# Altium schematic symbol library PCB_Project.SCHLIB: 19 symbols
Pins are listed as number, name and electrical type; pins without a type are passive.

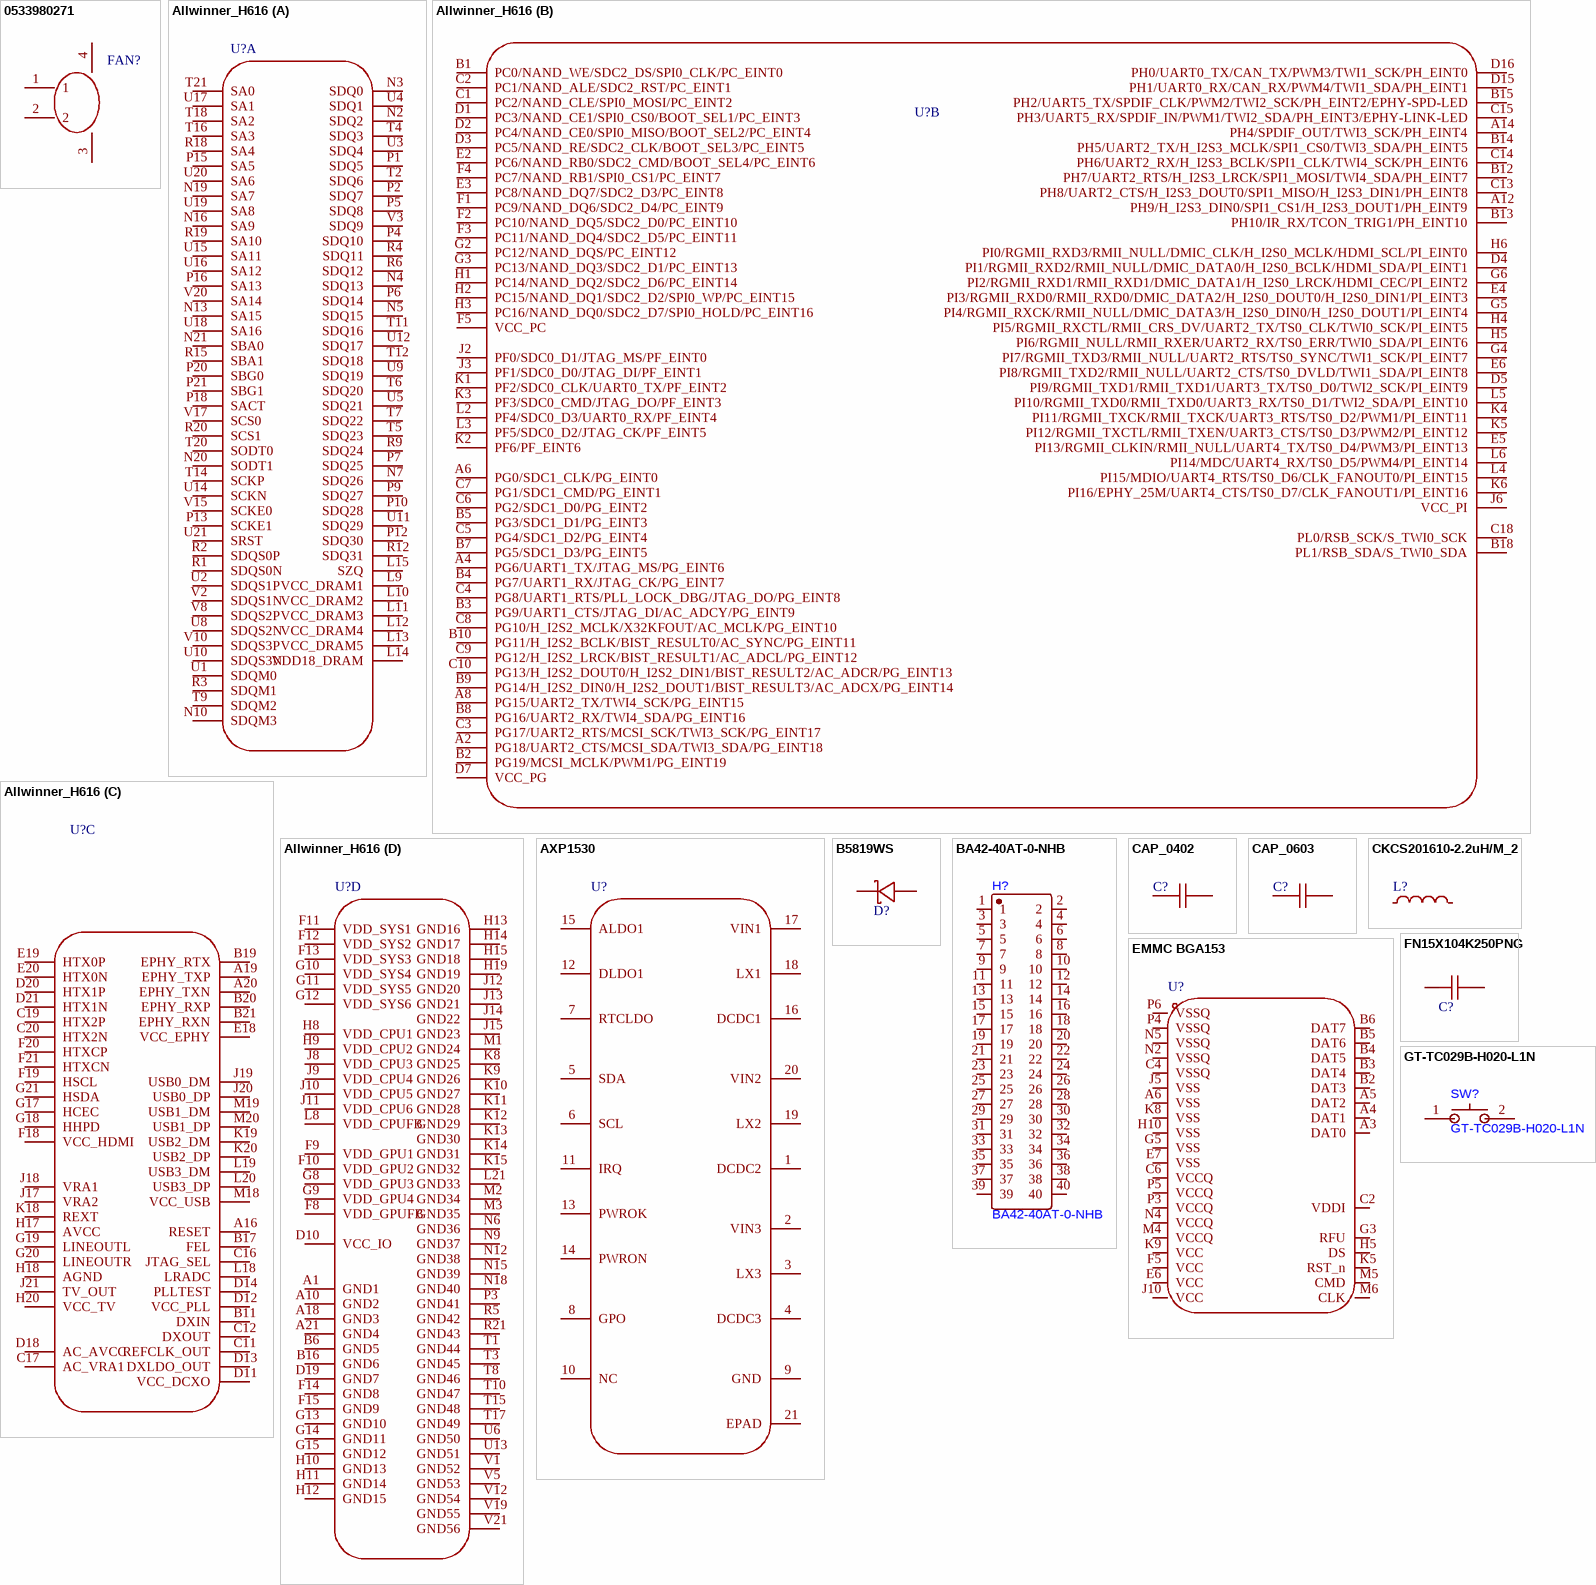
[diagram p0: symbols 0533980271 to GT-TC029B-H020-L1N]

## 0533980271
designator FAN?  (value not drawn)
footprint CONN-SMD_2P-P1.25_053398-0X71
pins: 1, 2, 3, 4

## Allwinner_H616
designator U?  (value not drawn)
footprint BGA284P65B1200_1400H125
part A pins: L9 VCC_DRAM1, L10 VCC_DRAM2, L11 VCC_DRAM3, L12 VCC_DRAM4, L13 VCC_DRAM5, L14 VDD18_DRAM, L15 SZQ, N2 SDQ2, N3 SDQ0, N4 SDQ13, N5 SDQ15, N7 SDQ26, N10 SDQM3, N13 SA15, N16 SA9, N19 SA7, N20 SODT1, N21 SBA0, P1 SDQ5, P2 SDQ7, P4 SDQ10, P5 SDQ8, P6 SDQ14, P7 SDQ25, P9 SDQ27, P10 SDQ28, P12 SDQ30, P13 SCKE1, P15 SA5, P16 SA13, P18 SACT, P20 SBG0, P21 SBG1, R1 SDQS0N, R2 SDQS0P, R3 SDQM1, R4 SDQ11, R6 SDQ12, R9 SDQ24, R12 SDQ31, R15 SBA1, R18 SA4, R19 SA10, R20 SCS1, T2 SDQ6, T4 SDQ3, T5 SDQ23, T6 SDQ20, T7 SDQ22, T9 SDQM2, T11 SDQ16, T12 SDQ18, T14 SCKP, T16 SA3, T18 SA2, T20 SODT0, T21 SA0, U1 SDQM0, U2 SDQS1P, U3 SDQ4, U4 SDQ1, U5 SDQ21, U8 SDQS2N, U9 SDQ19, U10 SDQS3N, U11 SDQ29, U12 SDQ17, U14 SCKN, U15 SA11, U16 SA12, U17 SA1, U18 SA16, U19 SA8, U20 SA6, U21 SRST, V2 SDQS1N, V3 SDQ9, V8 SDQS2P, V10 SDQS3P, V15 SCKE0, V17 SCS0, V20 SA14
part B pins: A2 PG18/UART2_CTS/MCSI_SDA/TWI3_SDA/PG_EINT18, A4 PG6/UART1_TX/JTAG_MS/PG_EINT6, A6 PG0/SDC1_CLK/PG_EINT0, A8 PG15/UART2_TX/TWI4_SCK/PG_EINT15, A12 PH9/H_I2S3_DIN0/SPI1_CS1/H_I2S3_DOUT1/PH_EINT9, A14 PH4/SPDIF_OUT/TWI3_SCK/PH_EINT4, B1 PC0/NAND_WE/SDC2_DS/SPI0_CLK/PC_EINT0, B2 PG19/MCSI_MCLK/PWM1/PG_EINT19, B3 PG9/UART1_CTS/JTAG_DI/AC_ADCY/PG_EINT9, B4 PG7/UART1_RX/JTAG_CK/PG_EINT7, B5 PG3/SDC1_D1/PG_EINT3, B7 PG5/SDC1_D3/PG_EINT5, B8 PG16/UART2_RX/TWI4_SDA/PG_EINT16, B9 PG14/H_I2S2_DIN0/H_I2S2_DOUT1/BIST_RESULT3/AC_ADCX/PG_EINT14, B10 PG11/H_I2S2_BCLK/BIST_RESULT0/AC_SYNC/PG_EINT11, B12 PH7/UART2_RTS/H_I2S3_LRCK/SPI1_MOSI/TWI4_SDA/PH_EINT7, B13 PH10/IR_RX/TCON_TRIG1/PH_EINT10, B14 PH5/UART2_TX/H_I2S3_MCLK/SPI1_CS0/TWI3_SDA/PH_EINT5, B15 PH2/UART5_TX/SPDIF_CLK/PWM2/TWI2_SCK/PH_EINT2/EPHY-SPD-LED, B18 PL1/RSB_SDA/S_TWI0_SDA, C1 PC2/NAND_CLE/SPI0_MOSI/PC_EINT2, C2 PC1/NAND_ALE/SDC2_RST/PC_EINT1, C3 PG17/UART2_RTS/MCSI_SCK/TWI3_SCK/PG_EINT17, C4 PG8/UART1_RTS/PLL_LOCK_DBG/JTAG_DO/PG_EINT8, C5 PG4/SDC1_D2/PG_EINT4, C6 PG2/SDC1_D0/PG_EINT2, C7 PG1/SDC1_CMD/PG_EINT1, C8 PG10/H_I2S2_MCLK/X32KFOUT/AC_MCLK/PG_EINT10, C9 PG12/H_I2S2_LRCK/BIST_RESULT1/AC_ADCL/PG_EINT12, C10 PG13/H_I2S2_DOUT0/H_I2S2_DIN1/BIST_RESULT2/AC_ADCR/PG_EINT13, C13 PH8/UART2_CTS/H_I2S3_DOUT0/SPI1_MISO/H_I2S3_DIN1/PH_EINT8, C14 PH6/UART2_RX/H_I2S3_BCLK/SPI1_CLK/TWI4_SCK/PH_EINT6, C15 PH3/UART5_RX/SPDIF_IN/PWM1/TWI2_SDA/PH_EINT3/EPHY-LINK-LED, C18 PL0/RSB_SCK/S_TWI0_SCK, D1 PC3/NAND_CE1/SPI0_CS0/BOOT_SEL1/PC_EINT3, D2 PC4/NAND_CE0/SPI0_MISO/BOOT_SEL2/PC_EINT4, D3 PC5/NAND_RE/SDC2_CLK/BOOT_SEL3/PC_EINT5, D4 PI1/RGMII_RXD2/RMII_NULL/DMIC_DATA0/H_I2S0_BCLK/HDMI_SDA/PI_EINT1, D5 PI9/RGMII_TXD1/RMII_TXD1/UART3_TX/TS0_D0/TWI2_SCK/PI_EINT9, D7 VCC_PG, D15 PH1/UART0_RX/CAN_RX/PWM4/TWI1_SDA/PH_EINT1, D16 PH0/UART0_TX/CAN_TX/PWM3/TWI1_SCK/PH_EINT0, E2 PC6/NAND_RB0/SDC2_CMD/BOOT_SEL4/PC_EINT6, E3 PC8/NAND_DQ7/SDC2_D3/PC_EINT8, E4 PI3/RGMII_RXD0/RMII_RXD0/DMIC_DATA2/H_I2S0_DOUT0/H_I2S0_DIN1/PI_EINT3, E5 PI13/RGMII_CLKIN/RMII_NULL/UART4_TX/TS0_D4/PWM3/PI_EINT13, E6 PI8/RGMII_TXD2/RMII_NULL/UART2_CTS/TS0_DVLD/TWI1_SDA/PI_EINT8, F1 PC9/NAND_DQ6/SDC2_D4/PC_EINT9, F2 PC10/NAND_DQ5/SDC2_D0/PC_EINT10, F3 PC11/NAND_DQ4/SDC2_D5/PC_EINT11, F4 PC7/NAND_RB1/SPI0_CS1/PC_EINT7, F5 VCC_PC, G2 PC12/NAND_DQS/PC_EINT12, G3 PC13/NAND_DQ3/SDC2_D1/PC_EINT13, G4 PI7/RGMII_TXD3/RMII_NULL/UART2_RTS/TS0_SYNC/TWI1_SCK/PI_EINT7, G5 PI4/RGMII_RXCK/RMII_NULL/DMIC_DATA3/H_I2S0_DIN0/H_I2S0_DOUT1/PI_EINT4, G6 PI2/RGMII_RXD1/RMII_RXD1/DMIC_DATA1/H_I2S0_LRCK/HDMI_CEC/PI_EINT2, H1 PC14/NAND_DQ2/SDC2_D6/PC_EINT14, H2 PC15/NAND_DQ1/SDC2_D2/SPI0_WP/PC_EINT15, H3 PC16/NAND_DQ0/SDC2_D7/SPI0_HOLD/PC_EINT16, H4 PI5/RGMII_RXCTL/RMII_CRS_DV/UART2_TX/TS0_CLK/TWI0_SCK/PI_EINT5, H5 PI6/RGMII_NULL/RMII_RXER/UART2_RX/TS0_ERR/TWI0_SDA/PI_EINT6, H6 PI0/RGMII_RXD3/RMII_NULL/DMIC_CLK/H_I2S0_MCLK/HDMI_SCL/PI_EINT0, J2 PF0/SDC0_D1/JTAG_MS/PF_EINT0, J3 PF1/SDC0_D0/JTAG_DI/PF_EINT1, J6 VCC_PI, K1 PF2/SDC0_CLK/UART0_TX/PF_EINT2, K2 PF6/PF_EINT6, K3 PF3/SDC0_CMD/JTAG_DO/PF_EINT3, K4 PI11/RGMII_TXCK/RMII_TXCK/UART3_RTS/TS0_D2/PWM1/PI_EINT11, K5 PI12/RGMII_TXCTL/RMII_TXEN/UART3_CTS/TS0_D3/PWM2/PI_EINT12, K6 PI16/EPHY_25M/UART4_CTS/TS0_D7/CLK_FANOUT1/PI_EINT16, L2 PF4/SDC0_D3/UART0_RX/PF_EINT4, L3 PF5/SDC0_D2/JTAG_CK/PF_EINT5, L4 PI15/MDIO/UART4_RTS/TS0_D6/CLK_FANOUT0/PI_EINT15, L5 PI10/RGMII_TXD0/RMII_TXD0/UART3_RX/TS0_D1/TWI2_SDA/PI_EINT10, L6 PI14/MDC/UART4_RX/TS0_D5/PWM4/PI_EINT14
part C pins: A16 RESET, A19 EPHY_TXP, A20 EPHY_TXN, B11 DXIN, B17 FEL, B19 EPHY_RTX, B20 EPHY_RXP, B21 EPHY_RXN, C11 REFCLK_OUT, C12 DXOUT, C16 JTAG_SEL, C17 AC_VRA1, C19 HTX2P, C20 HTX2N, D11 VCC_DCXO, D12 VCC_PLL, D13 DXLDO_OUT, D14 PLLTEST, D18 AC_AVCC, D20 HTX1P, D21 HTX1N, E18 VCC_EPHY, E19 HTX0P, E20 HTX0N, F18 VCC_HDMI, F19 HSCL, F20 HTXCP, F21 HTXCN, G17 HCEC, G18 HHPD, G19 LINEOUTL, G20 LINEOUTR, G21 HSDA, H17 AVCC, H18 AGND, H20 VCC_TV, J17 VRA2, J18 VRA1, J19 USB0_DM, J20 USB0_DP, J21 TV_OUT, K18 REXT, K19 USB2_DM, K20 USB2_DP, L18 LRADC, L19 USB3_DM, L20 USB3_DP, M18 VCC_USB, M19 USB1_DM, M20 USB1_DP
part D pins: A1 GND1, A10 GND2, A18 GND3, A21 GND4, B6 GND5, B16 GND6, D10 VCC_IO, D19 GND7, F8 VDD_GPUFB, F9 VDD_GPU1, F10 VDD_GPU2, F11 VDD_SYS1, F12 VDD_SYS2, F13 VDD_SYS3, F14 GND8, F15 GND9, G8 VDD_GPU3, G9 VDD_GPU4, G10 VDD_SYS4, G11 VDD_SYS5, G12 VDD_SYS6, G13 GND10, G14 GND11, G15 GND12, H8 VDD_CPU1, H9 VDD_CPU2, H10 GND13, H11 GND14, H12 GND15, H13 GND16, H14 GND17, H15 GND18, H19 GND19, J8 VDD_CPU3, J9 VDD_CPU4, J10 VDD_CPU5, J11 VDD_CPU6, J12 GND20, J13 GND21, J14 GND22, J15 GND23, K8 GND25, K9 GND26, K10 GND27, K11 GND28, K12 GND29, K13 GND30, K14 GND31, K15 GND32, L8 VDD_CPUFB, L21 GND33, M1 GND24, M2 GND34, M3 GND35, N6 GND36, N9 GND37, N12 GND38, N15 GND39, N18 GND40, P3 GND41, R5 GND42, R21 GND43, T1 GND44, T3 GND45, T8 GND46, T10 GND47, T15 GND48, T17 GND49, U6 GND50, U13 GND51, V1 GND52, V5 GND53, V12 GND54, V19 GND55, V21 GND56

## AXP1530
designator U?, comment AXP313A  (value not drawn)
footprint WQFN-20_L3.0-W3.0-P0.40-BL-EP
pins: 1 DCDC2, 2 VIN3, 3 LX3, 4 DCDC3, 5 SDA, 6 SCL, 7 RTCLDO, 8 GPO, 9 GND, 10 NC, 11 IRQ, 12 DLDO1, 13 PWROK, 14 PWRON, 15 ALDO1, 16 DCDC1, 17 VIN1, 18 LX1, 19 LX2, 20 VIN2, 21 EPAD

## B5819WS
designator D?  (value not drawn)
footprint SOD-323_L1.8-W1.3-LS2.5-NSK
pins: 1 K, 2 A

## BA42-40AT-0-NHB
designator H?
footprint CONN-SMD_40P-P0.80_10144517-042802LF
pins: 1, 2, 3, 4, 5, 6, 7, 8, 9, 10, 11, 12, 13, 14, 15, 16, 17, 18, 19, 20, 21, 22, 23, 24, 25, 26, 27, 28, 29, 30, 31, 32, 33, 34, 35, 36, 37, 38, 39, 40

## CAP_0402
designator C?, comment 4.7uf  (value not drawn)
footprint C0402
footprint C0402-NSK
pins: 1, 2

## CAP_0603
designator C?, comment 22uf  (value not drawn)
footprint C0603
pins: 1, 2

## CKCS201610-2.2uH/M_2
designator L?, comment 1uH  (value not drawn)
footprint IND-SMD_L2.0-W1.6_1
pins: 1, 2

## EMMC BGA153
designator U?  (value not drawn)
footprint FBGA-153_L13.0-W11.5
pins: A3 DAT0, A4 DAT1, A5 DAT2, A6 VSS, B2 DAT3, B3 DAT4, B4 DAT5, B5 DAT6, B6 DAT7, C2 VDDI, C4 VSSQ, C6 VCCQ, E6 VCC, E7 VSS, F5 VCC, G3 RFU, G5 VSS, H5 DS, H10 VSS, J5 VSS, J10 VCC, K5 RST_n, K8 VSS, K9 VCC, M4 VCCQ, M5 CMD, M6 CLK, N2 VSSQ, N4 VCCQ, N5 VSSQ, P3 VCCQ, P4 VSSQ, P5 VCCQ, P6 VSSQ

## FN15X104K250PNG
designator C?, comment 100nF  (value not drawn)
footprint c0402-nsk_1
pins: 1, 2

## GT-TC029B-H020-L1N
designator SW?
footprint SW-SMD_L3.9-W2.9-P4.15-LS5.0
pins: 1, 2

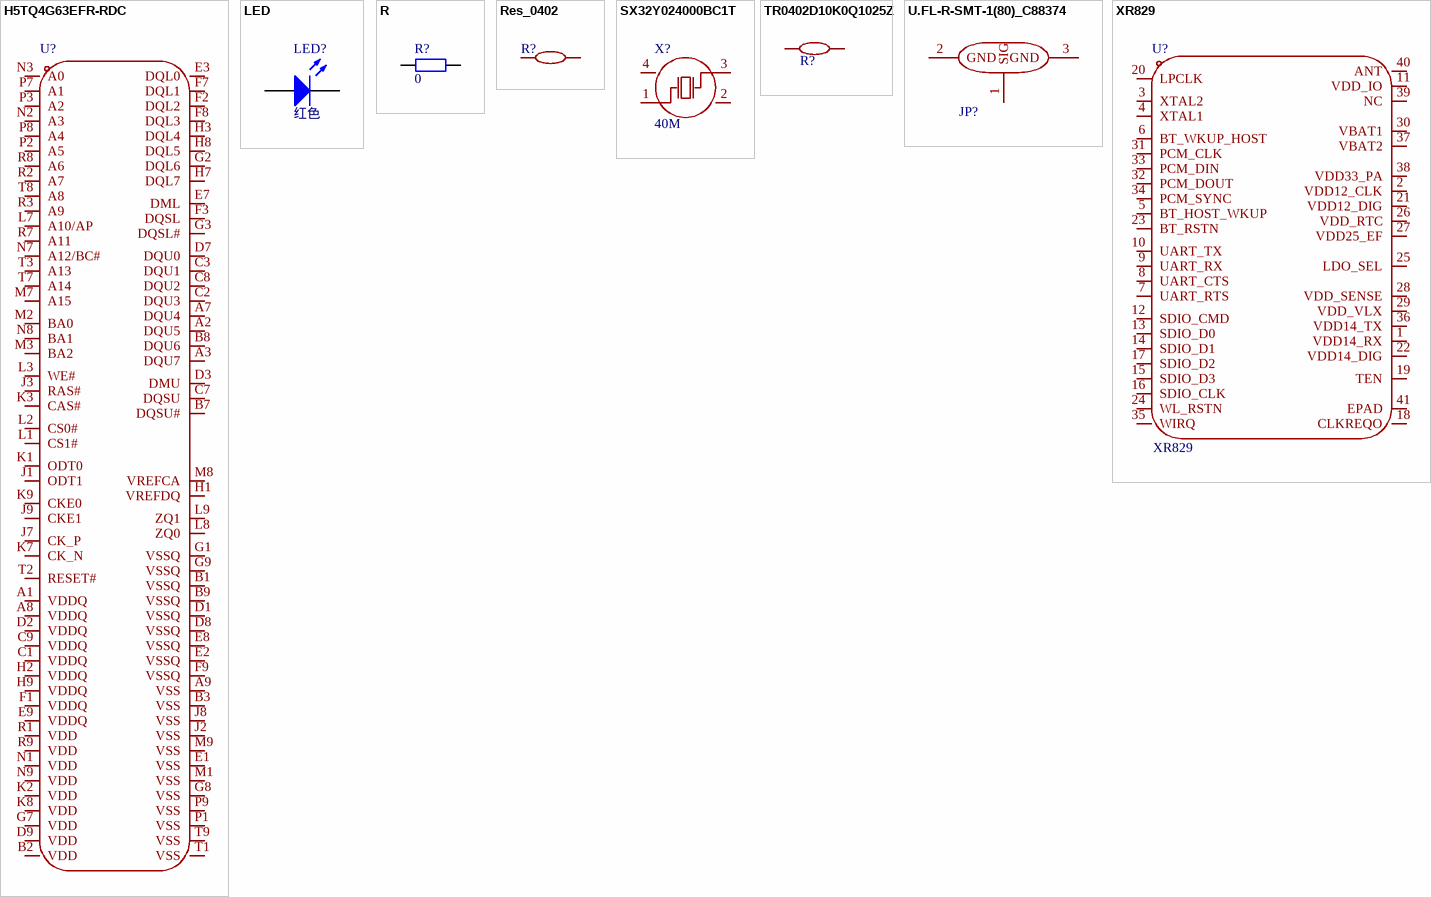
[diagram p1: symbols H5TQ4G63EFR-RDC to XR829]

## H5TQ4G63EFR-RDC
designator U?  (value not drawn)
footprint FBGA96
pins: A1 VDDQ, A2 DQU5, A3 DQU7, A7 DQU4, A8 VDDQ, A9 VSS, B1 VSSQ, B2 VDD, B3 VSS, B7 DQSU#, B8 DQU6, B9 VSSQ, C1 VDDQ, C2 DQU3, C3 DQU1, C7 DQSU, C8 DQU2, C9 VDDQ, D1 VSSQ, D2 VDDQ, D3 DMU, D7 DQU0, D8 VSSQ, D9 VDD, E1 VSS, E2 VSSQ, E3 DQL0, E7 DML, E8 VSSQ, E9 VDDQ, F1 VDDQ, F2 DQL2, F3 DQSL, F7 DQL1, F8 DQL3, F9 VSSQ, G1 VSSQ, G2 DQL6, G3 DQSL#, G7 VDD, G8 VSS, G9 VSSQ, H1 VREFDQ, H2 VDDQ, H3 DQL4, H7 DQL7, H8 DQL5, H9 VDDQ, J1 ODT1, J2 VSS, J3 RAS#, J7 CK_P, J8 VSS, J9 CKE1, K1 ODT0, K2 VDD, K3 CAS#, K7 CK_N, K8 VDD, K9 CKE0, L1 CS1#, L2 CS0#, L3 WE#, L7 A10/AP, L8 ZQ0, L9 ZQ1, M1 VSS, M2 BA0, M3 BA2, M7 A15, M8 VREFCA, M9 VSS, N1 VDD, N2 A3, N3 A0, N7 A12/BC#, N8 BA1, N9 VDD, P1 VSS, P2 A5, P3 A2, P7 A1, P8 A4, P9 VSS, R1 VDD, R2 A7, R3 A9, R7 A11, R8 A6, R9 VDD, T1 VSS, T2 RESET#, T3 A13, T7 A14, T8 A8, T9 VSS

## LED
designator LED?, comment 红色
贴片LED
footprint LED0805_G (绿色0805LED)
pins: 1 A, 2 K

## R
designator R?, comment 0
贴片电阻
footprint R0805_L (1/8W贴片电阻)
pins: 1, 2

## Res_0402
designator R?, comment 510  (value not drawn)
footprint R0402-NSK_2
pins: 1, 2

## SX32Y024000BC1T
designator X?, comment 40M
footprint OSC-SMD_4P-L2.0-W1.6-BL
pins: 1 OSC1, 2 GND, 3 OSC2, 4 GND

## TR0402D10K0Q1025Z
designator R?, comment 510  (value not drawn)
footprint R0402-NSK_2
pins: 1, 2

## U.FL-R-SMT-1(80)_C88374
designator JP?  (value not drawn)
footprint RF-SMD_FRF05002-JSS103M
pins: 1 SIG, 2 GND, 3 GND

## XR829
designator U?
footprint QFN-40_L5.0-W5.0-P0.40-BL-EP3.4
pins: 1 VDD14_RX, 2 VDD12_CLK, 3 XTAL2, 4 XTAL1, 5 BT_HOST_WKUP, 6 BT_WKUP_HOST, 7 UART_RTS, 8 UART_CTS, 9 UART_RX, 10 UART_TX, 11 VDD_IO, 12 SDIO_CMD, 13 SDIO_D0, 14 SDIO_D1, 15 SDIO_D3, 16 SDIO_CLK, 17 SDIO_D2, 18 CLKREQO, 19 TEN, 20 LPCLK, 21 VDD12_DIG, 22 VDD14_DIG, 23 BT_RSTN, 24 WL_RSTN, 25 LDO_SEL, 26 VDD_RTC, 27 VDD25_EF, 28 VDD_SENSE, 29 VDD_VLX, 30 VBAT1, 31 PCM_CLK, 32 PCM_DOUT, 33 PCM_DIN, 34 PCM_SYNC, 35 WIRQ, 36 VDD14_TX, 37 VBAT2, 38 VDD33_PA, 39 NC, 40 ANT, 41 EPAD